# Altium integrated library Texas Instruments Interface I2C.IntLib: 424 symbols (part 15 of 23)
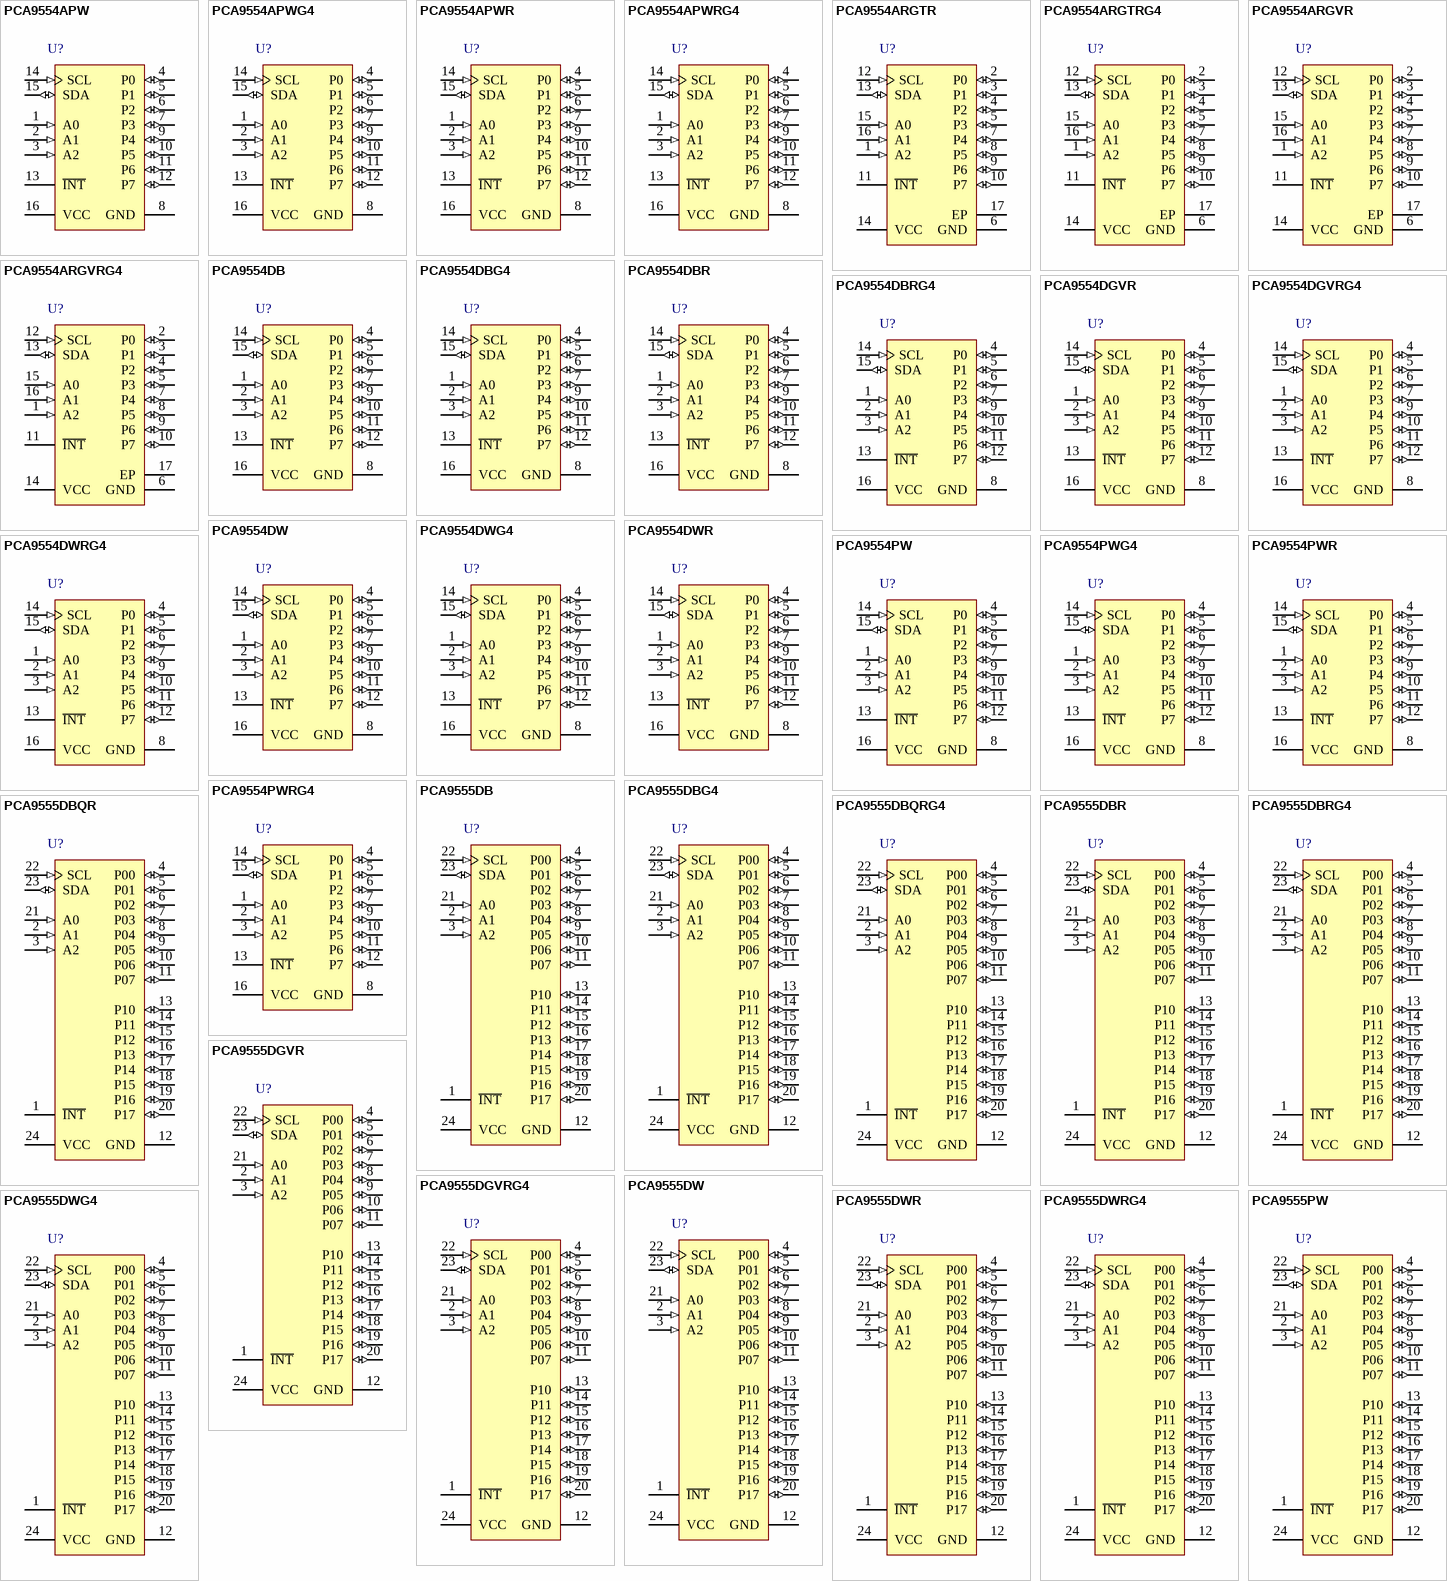
[diagram p27: symbols PCA9554APW to PCA9555PW]

## PCA9555DGVRG4
designator U?
Remote 16-Bit I2C and SMBus I/O Expander with Interrupt Output and Configuration Registers, 2.3 to 5.5 V, -40 to 85 degC, 24-pin TVSOP (DGV), Green (RoHS & no Sb/Br); Manufacturer: Texas Instruments; PartNumber: PCA9555DGVRG4; SubFamily: I2C IO Expander; No. of Outputs: 2; Interrupt Output: Yes; fSCLK(Max)(MHz): 400; VCC(Min)(V): 2.3; VCC(Max)(V): 5.5; I2C Address: 0100 xxx; # of I/Os: 16; DatasheetVersion: SCPS131E; PackageVersion: revE, Aug-2000; PackageReference: DGV24; PackageDescription: 24-Pin Thin Shrink Small Outline Package 0.4 mm Pitch; Supplier 1: Digi-Key; Supplier Part Number 1: PCA9555DGVRG4-ND; Supplier 2: Mouser; Supplier Part Number 2: 595-PCA9555DGVRG4; Eco-Plan: Green (RoHS & no Sb/Br); Max Frequency(kHz): 400; Vcc range(V): 2.3 to 5.5; Configuration Registers: Yes; 5V Tolerant I/O: Yes; Push-Pull I/O Type: Yes; Mounting Technology: Surface Mount; ComponentLink1Description: Datasheet; ComponentLink1URL: http://www.ti.com/general/docs/lit/getliterature.tsp?genericPartNumber=PCA9555&fileType=pdf; ComponentLink2Description: Package Specification; ComponentLink2URL: http://www.ti.com/litv/pdf/msso002e
footprint DGV24_N (TSSOP, 24-Leads, Body 5x4.4mm, Pitch 0.4mm, IPC Medium Density)
footprint DGV24_L (TSSOP, 24-Leads, Body 5x4.4mm, Pitch 0.4mm, IPC High Density)
footprint DGV24_M (TSSOP, 24-Leads, Body 5x4.4mm, Pitch 0.4mm, IPC Low Density)
pins: 1 ~{INT} (oc) "Interrupt output. Connect to VCC through a pullup resistor.", 2 A1 (in) "Address input 1. Connect directly to VCC or ground.", 3 A2 (in) "Address input 2. Connect directly to VCC or ground.", 4 P00 (io) "P-port input/output. Push-pull design structure.", 5 P01 (io) "P-port input/output. Push-pull design structure.", 6 P02 (io) "P-port input/output. Push-pull design structure.", 7 P03 (io) "P-port input/output. Push-pull design structure.", 8 P04 (io) "P-port input/output. Push-pull design structure.", 9 P05 (io) "P-port input/output. Push-pull design structure.", 10 P06 (io) "P-port input/output. Push-pull design structure.", 11 P07 (io) "P-port input/output. Push-pull design structure.", 12 GND (power) "Ground", 13 P10 (io) "P-port input/output. Push-pull design structure.", 14 P11 (io) "P-port input/output. Push-pull design structure.", 15 P12 (io) "P-port input/output. Push-pull design structure.", 16 P13 (io) "P-port input/output. Push-pull design structure.", 17 P14 (io) "P-port input/output. Push-pull design structure.", 18 P15 (io) "P-port input/output. Push-pull design structure.", 19 P16 (io) "P-port input/output. Push-pull design structure.", 20 P17 (io) "P-port input/output. Push-pull design structure.", 21 A0 (in) "Address input 0. Connect directly to VCC or ground.", 22 SCL (in) "Serial clock bus. Connect to VCC through a pullup resistor.", 23 SDA (io) "Serial data bus. Connect to VCC through a pullup resistor.", 24 VCC (power) "Supply voltage"

## PCA9555DW
designator U?
Remote 16-Bit I2C and SMBus I/O Expander with Interrupt Output and Configuration Registers, 2.3 to 5.5 V, -40 to 85 degC, 24-pin SOIC (DW), Green (RoHS & no Sb/Br); Manufacturer: Texas Instruments; PartNumber: PCA9555DW; SubFamily: I2C IO Expander; No. of Outputs: 2; Interrupt Output: Yes; fSCLK(Max)(MHz): 400; VCC(Min)(V): 2.3; VCC(Max)(V): 5.5; I2C Address: 0100 xxx; # of I/Os: 16; DatasheetVersion: SCPS131E; PackageVersion: revG, Jan-2011; PackageReference: DW24; PackageDescription: 24-Pin Plastic Small Outline Integrated Circuit, 15.4 x 7.5 mm, Pitch 1.27 mm Pitch; Supplier 1: Digi-Key; Supplier Part Number 1: PCA9555DW-ND; Supplier 2: Newark; Supplier Part Number 2: 63K6067; Supplier 3: Mouser; Supplier Part Number 3: 595-PCA9555DW; Eco-Plan: Green (RoHS & no Sb/Br); Max Frequency(kHz): 400; Vcc range(V): 2.3 to 5.5; Configuration Registers: Yes; 5V Tolerant I/O: Yes; Push-Pull I/O Type: Yes; Mounting Technology: Surface Mount; Code_JEDEC: MS-013AD; ComponentLink1Description: Datasheet; ComponentLink1URL: http://www.ti.com/general/docs/lit/getliterature.tsp?genericPartNumber=PCA9555&fileType=pdf; ComponentLink2Description: Package Specification; ComponentLink2URL: http://www.ti.com/litv/pdf/mpds174a
footprint DW24_N (SOIC, 24-Leads, Body 15.4x7.5mm, Pitch 1.27mm, IPC Medium Density)
footprint DW24_L (SOIC, 24-Leads, Body 15.4x7.5mm, Pitch 1.27mm, IPC High Density)
footprint DW24_M (SOIC, 24-Leads, Body 15.4x7.5mm, Pitch 1.27mm, IPC Low Density)
pins: 1 ~{INT} (oc) "Interrupt output. Connect to VCC through a pullup resistor.", 2 A1 (in) "Address input 1. Connect directly to VCC or ground.", 3 A2 (in) "Address input 2. Connect directly to VCC or ground.", 4 P00 (io) "P-port input/output. Push-pull design structure.", 5 P01 (io) "P-port input/output. Push-pull design structure.", 6 P02 (io) "P-port input/output. Push-pull design structure.", 7 P03 (io) "P-port input/output. Push-pull design structure.", 8 P04 (io) "P-port input/output. Push-pull design structure.", 9 P05 (io) "P-port input/output. Push-pull design structure.", 10 P06 (io) "P-port input/output. Push-pull design structure.", 11 P07 (io) "P-port input/output. Push-pull design structure.", 12 GND (power) "Ground", 13 P10 (io) "P-port input/output. Push-pull design structure.", 14 P11 (io) "P-port input/output. Push-pull design structure.", 15 P12 (io) "P-port input/output. Push-pull design structure.", 16 P13 (io) "P-port input/output. Push-pull design structure.", 17 P14 (io) "P-port input/output. Push-pull design structure.", 18 P15 (io) "P-port input/output. Push-pull design structure.", 19 P16 (io) "P-port input/output. Push-pull design structure.", 20 P17 (io) "P-port input/output. Push-pull design structure.", 21 A0 (in) "Address input 0. Connect directly to VCC or ground.", 22 SCL (in) "Serial clock bus. Connect to VCC through a pullup resistor.", 23 SDA (io) "Serial data bus. Connect to VCC through a pullup resistor.", 24 VCC (power) "Supply voltage"

## PCA9555DWG4
designator U?
Remote 16-Bit I2C and SMBus I/O Expander with Interrupt Output and Configuration Registers, 2.3 to 5.5 V, -40 to 85 degC, 24-pin SOIC (DW), Green (RoHS & no Sb/Br); Manufacturer: Texas Instruments; PartNumber: PCA9555DWG4; SubFamily: I2C IO Expander; No. of Outputs: 2; Interrupt Output: Yes; fSCLK(Max)(MHz): 400; VCC(Min)(V): 2.3; VCC(Max)(V): 5.5; I2C Address: 0100 xxx; # of I/Os: 16; DatasheetVersion: SCPS131E; PackageVersion: revG, Jan-2011; PackageReference: DW24; PackageDescription: 24-Pin Plastic Small Outline Integrated Circuit, 15.4 x 7.5 mm, Pitch 1.27 mm Pitch; Supplier 1: Digi-Key; Supplier Part Number 1: PCA9555DWG4-ND; Supplier 2: Mouser; Supplier Part Number 2: 595-PCA9555DWG4; Eco-Plan: Green (RoHS & no Sb/Br); Max Frequency(kHz): 400; Vcc range(V): 2.3 to 5.5; Configuration Registers: Yes; 5V Tolerant I/O: Yes; Push-Pull I/O Type: Yes; Mounting Technology: Surface Mount; Code_JEDEC: MS-013AD; ComponentLink1Description: Datasheet; ComponentLink1URL: http://www.ti.com/general/docs/lit/getliterature.tsp?genericPartNumber=PCA9555&fileType=pdf; ComponentLink2Description: Package Specification; ComponentLink2URL: http://www.ti.com/litv/pdf/mpds174a
footprint DW24_N (SOIC, 24-Leads, Body 15.4x7.5mm, Pitch 1.27mm, IPC Medium Density)
footprint DW24_L (SOIC, 24-Leads, Body 15.4x7.5mm, Pitch 1.27mm, IPC High Density)
footprint DW24_M (SOIC, 24-Leads, Body 15.4x7.5mm, Pitch 1.27mm, IPC Low Density)
pins: 1 ~{INT} (oc) "Interrupt output. Connect to VCC through a pullup resistor.", 2 A1 (in) "Address input 1. Connect directly to VCC or ground.", 3 A2 (in) "Address input 2. Connect directly to VCC or ground.", 4 P00 (io) "P-port input/output. Push-pull design structure.", 5 P01 (io) "P-port input/output. Push-pull design structure.", 6 P02 (io) "P-port input/output. Push-pull design structure.", 7 P03 (io) "P-port input/output. Push-pull design structure.", 8 P04 (io) "P-port input/output. Push-pull design structure.", 9 P05 (io) "P-port input/output. Push-pull design structure.", 10 P06 (io) "P-port input/output. Push-pull design structure.", 11 P07 (io) "P-port input/output. Push-pull design structure.", 12 GND (power) "Ground", 13 P10 (io) "P-port input/output. Push-pull design structure.", 14 P11 (io) "P-port input/output. Push-pull design structure.", 15 P12 (io) "P-port input/output. Push-pull design structure.", 16 P13 (io) "P-port input/output. Push-pull design structure.", 17 P14 (io) "P-port input/output. Push-pull design structure.", 18 P15 (io) "P-port input/output. Push-pull design structure.", 19 P16 (io) "P-port input/output. Push-pull design structure.", 20 P17 (io) "P-port input/output. Push-pull design structure.", 21 A0 (in) "Address input 0. Connect directly to VCC or ground.", 22 SCL (in) "Serial clock bus. Connect to VCC through a pullup resistor.", 23 SDA (io) "Serial data bus. Connect to VCC through a pullup resistor.", 24 VCC (power) "Supply voltage"

## PCA9555DWR
designator U?
Remote 16-Bit I2C and SMBus I/O Expander with Interrupt Output and Configuration Registers, 2.3 to 5.5 V, -40 to 85 degC, 24-pin SOIC (DW), Green (RoHS & no Sb/Br); Manufacturer: Texas Instruments; PartNumber: PCA9555DWR; SubFamily: I2C IO Expander; No. of Outputs: 2; Interrupt Output: Yes; fSCLK(Max)(MHz): 400; VCC(Min)(V): 2.3; VCC(Max)(V): 5.5; I2C Address: 0100 xxx; # of I/Os: 16; DatasheetVersion: SCPS131E; PackageVersion: revG, Jan-2011; PackageReference: DW24; PackageDescription: 24-Pin Plastic Small Outline Integrated Circuit, 15.4 x 7.5 mm, Pitch 1.27 mm Pitch; Supplier 1: Digi-Key; Supplier Part Number 1: 296-20973-2-ND; Supplier 2: Digi-Key; Supplier Part Number 2: 296-20973-1-ND; Supplier 3: Digi-Key; Supplier Part Number 3: 296-20973-6-ND; Supplier 4: Farnell; Supplier Part Number 4: 2101298; Supplier 5: Farnell; Supplier Part Number 5: 1575239; Supplier 6: Newark; Supplier Part Number 6: 63K6068; Supplier 7: Mouser; Supplier Part Number 7: 595-PCA9555DWR; Eco-Plan: Green (RoHS & no Sb/Br); Max Frequency(kHz): 400; Vcc range(V): 2.3 to 5.5; Configuration Registers: Yes; 5V Tolerant I/O: Yes; Push-Pull I/O Type: Yes; Mounting Technology: Surface Mount; Code_JEDEC: MS-013AD; ComponentLink1Description: Datasheet; ComponentLink1URL: http://www.ti.com/general/docs/lit/getliterature.tsp?genericPartNumber=PCA9555&fileType=pdf; ComponentLink2Description: Package Specification; ComponentLink2URL: http://www.ti.com/litv/pdf/mpds174a
footprint DW24_N (SOIC, 24-Leads, Body 15.4x7.5mm, Pitch 1.27mm, IPC Medium Density)
footprint DW24_L (SOIC, 24-Leads, Body 15.4x7.5mm, Pitch 1.27mm, IPC High Density)
footprint DW24_M (SOIC, 24-Leads, Body 15.4x7.5mm, Pitch 1.27mm, IPC Low Density)
pins: 1 ~{INT} (oc) "Interrupt output. Connect to VCC through a pullup resistor.", 2 A1 (in) "Address input 1. Connect directly to VCC or ground.", 3 A2 (in) "Address input 2. Connect directly to VCC or ground.", 4 P00 (io) "P-port input/output. Push-pull design structure.", 5 P01 (io) "P-port input/output. Push-pull design structure.", 6 P02 (io) "P-port input/output. Push-pull design structure.", 7 P03 (io) "P-port input/output. Push-pull design structure.", 8 P04 (io) "P-port input/output. Push-pull design structure.", 9 P05 (io) "P-port input/output. Push-pull design structure.", 10 P06 (io) "P-port input/output. Push-pull design structure.", 11 P07 (io) "P-port input/output. Push-pull design structure.", 12 GND (power) "Ground", 13 P10 (io) "P-port input/output. Push-pull design structure.", 14 P11 (io) "P-port input/output. Push-pull design structure.", 15 P12 (io) "P-port input/output. Push-pull design structure.", 16 P13 (io) "P-port input/output. Push-pull design structure.", 17 P14 (io) "P-port input/output. Push-pull design structure.", 18 P15 (io) "P-port input/output. Push-pull design structure.", 19 P16 (io) "P-port input/output. Push-pull design structure.", 20 P17 (io) "P-port input/output. Push-pull design structure.", 21 A0 (in) "Address input 0. Connect directly to VCC or ground.", 22 SCL (in) "Serial clock bus. Connect to VCC through a pullup resistor.", 23 SDA (io) "Serial data bus. Connect to VCC through a pullup resistor.", 24 VCC (power) "Supply voltage"

## PCA9555DWRG4
designator U?
Remote 16-Bit I2C and SMBus I/O Expander with Interrupt Output and Configuration Registers, 2.3 to 5.5 V, -40 to 85 degC, 24-pin SOIC (DW), Green (RoHS & no Sb/Br); Manufacturer: Texas Instruments; PartNumber: PCA9555DWRG4; SubFamily: I2C IO Expander; No. of Outputs: 2; Interrupt Output: Yes; fSCLK(Max)(MHz): 400; VCC(Min)(V): 2.3; VCC(Max)(V): 5.5; I2C Address: 0100 xxx; # of I/Os: 16; DatasheetVersion: SCPS131E; PackageVersion: revG, Jan-2011; PackageReference: DW24; PackageDescription: 24-Pin Plastic Small Outline Integrated Circuit, 15.4 x 7.5 mm, Pitch 1.27 mm Pitch; Supplier 1: Digi-Key; Supplier Part Number 1: PCA9555DWRG4-ND; Supplier 2: Mouser; Supplier Part Number 2: 595-PCA9555DWRG4; Eco-Plan: Green (RoHS & no Sb/Br); Max Frequency(kHz): 400; Vcc range(V): 2.3 to 5.5; Configuration Registers: Yes; 5V Tolerant I/O: Yes; Push-Pull I/O Type: Yes; Mounting Technology: Surface Mount; Code_JEDEC: MS-013AD; ComponentLink1Description: Datasheet; ComponentLink1URL: http://www.ti.com/general/docs/lit/getliterature.tsp?genericPartNumber=PCA9555&fileType=pdf; ComponentLink2Description: Package Specification; ComponentLink2URL: http://www.ti.com/litv/pdf/mpds174a
footprint DW24_N (SOIC, 24-Leads, Body 15.4x7.5mm, Pitch 1.27mm, IPC Medium Density)
footprint DW24_L (SOIC, 24-Leads, Body 15.4x7.5mm, Pitch 1.27mm, IPC High Density)
footprint DW24_M (SOIC, 24-Leads, Body 15.4x7.5mm, Pitch 1.27mm, IPC Low Density)
pins: 1 ~{INT} (oc) "Interrupt output. Connect to VCC through a pullup resistor.", 2 A1 (in) "Address input 1. Connect directly to VCC or ground.", 3 A2 (in) "Address input 2. Connect directly to VCC or ground.", 4 P00 (io) "P-port input/output. Push-pull design structure.", 5 P01 (io) "P-port input/output. Push-pull design structure.", 6 P02 (io) "P-port input/output. Push-pull design structure.", 7 P03 (io) "P-port input/output. Push-pull design structure.", 8 P04 (io) "P-port input/output. Push-pull design structure.", 9 P05 (io) "P-port input/output. Push-pull design structure.", 10 P06 (io) "P-port input/output. Push-pull design structure.", 11 P07 (io) "P-port input/output. Push-pull design structure.", 12 GND (power) "Ground", 13 P10 (io) "P-port input/output. Push-pull design structure.", 14 P11 (io) "P-port input/output. Push-pull design structure.", 15 P12 (io) "P-port input/output. Push-pull design structure.", 16 P13 (io) "P-port input/output. Push-pull design structure.", 17 P14 (io) "P-port input/output. Push-pull design structure.", 18 P15 (io) "P-port input/output. Push-pull design structure.", 19 P16 (io) "P-port input/output. Push-pull design structure.", 20 P17 (io) "P-port input/output. Push-pull design structure.", 21 A0 (in) "Address input 0. Connect directly to VCC or ground.", 22 SCL (in) "Serial clock bus. Connect to VCC through a pullup resistor.", 23 SDA (io) "Serial data bus. Connect to VCC through a pullup resistor.", 24 VCC (power) "Supply voltage"

## PCA9555PW
designator U?
Remote 16-Bit I2C and SMBus I/O Expander with Interrupt Output and Configuration Registers, 2.3 to 5.5 V, -40 to 85 degC, 24-pin TSSOP (PW), Green (RoHS & no Sb/Br); Manufacturer: Texas Instruments; PartNumber: PCA9555PW; SubFamily: I2C IO Expander; No. of Outputs: 2; Interrupt Output: Yes; fSCLK(Max)(MHz): 400; VCC(Min)(V): 2.3; VCC(Max)(V): 5.5; I2C Address: 0100 xxx; # of I/Os: 16; DatasheetVersion: SCPS131E; PackageVersion: revG, Feb-2011; PackageReference: PW24; PackageDescription: 24-Pin Thin Small Outline Package 0.65 mm Pitch; Supplier 1: Digi-Key; Supplier Part Number 1: PCA9555PWTI-ND; Supplier 2: Newark; Supplier Part Number 2: 63K6069; Supplier 3: Mouser; Supplier Part Number 3: 595-PCA9555PW; Eco-Plan: Green (RoHS & no Sb/Br); Max Frequency(kHz): 400; Vcc range(V): 2.3 to 5.5; Configuration Registers: Yes; 5V Tolerant I/O: Yes; Push-Pull I/O Type: Yes; Mounting Technology: Surface Mount; Code_JEDEC: MO-153; ComponentLink1Description: Datasheet; ComponentLink1URL: http://www.ti.com/general/docs/lit/getliterature.tsp?genericPartNumber=PCA9555&fileType=pdf; ComponentLink2Description: Package Specification; ComponentLink2URL: http://www.ti.com/litv/pdf/mpds177g
footprint PW24_N (TSOP, 24-Leads, Body 7.8x4.4mm, Pitch 0.65mm, IPC Medium Density)
footprint PW24_L (TSOP, 24-Leads, Body 7.8x4.4mm, Pitch 0.65mm, IPC High Density)
footprint PW24_M (TSOP, 24-Leads, Body 7.8x4.4mm, Pitch 0.65mm, IPC Low Density)
pins: 1 ~{INT} (oc) "Interrupt output. Connect to VCC through a pullup resistor.", 2 A1 (in) "Address input 1. Connect directly to VCC or ground.", 3 A2 (in) "Address input 2. Connect directly to VCC or ground.", 4 P00 (io) "P-port input/output. Push-pull design structure.", 5 P01 (io) "P-port input/output. Push-pull design structure.", 6 P02 (io) "P-port input/output. Push-pull design structure.", 7 P03 (io) "P-port input/output. Push-pull design structure.", 8 P04 (io) "P-port input/output. Push-pull design structure.", 9 P05 (io) "P-port input/output. Push-pull design structure.", 10 P06 (io) "P-port input/output. Push-pull design structure.", 11 P07 (io) "P-port input/output. Push-pull design structure.", 12 GND (power) "Ground", 13 P10 (io) "P-port input/output. Push-pull design structure.", 14 P11 (io) "P-port input/output. Push-pull design structure.", 15 P12 (io) "P-port input/output. Push-pull design structure.", 16 P13 (io) "P-port input/output. Push-pull design structure.", 17 P14 (io) "P-port input/output. Push-pull design structure.", 18 P15 (io) "P-port input/output. Push-pull design structure.", 19 P16 (io) "P-port input/output. Push-pull design structure.", 20 P17 (io) "P-port input/output. Push-pull design structure.", 21 A0 (in) "Address input 0. Connect directly to VCC or ground.", 22 SCL (in) "Serial clock bus. Connect to VCC through a pullup resistor.", 23 SDA (io) "Serial data bus. Connect to VCC through a pullup resistor.", 24 VCC (power) "Supply voltage"

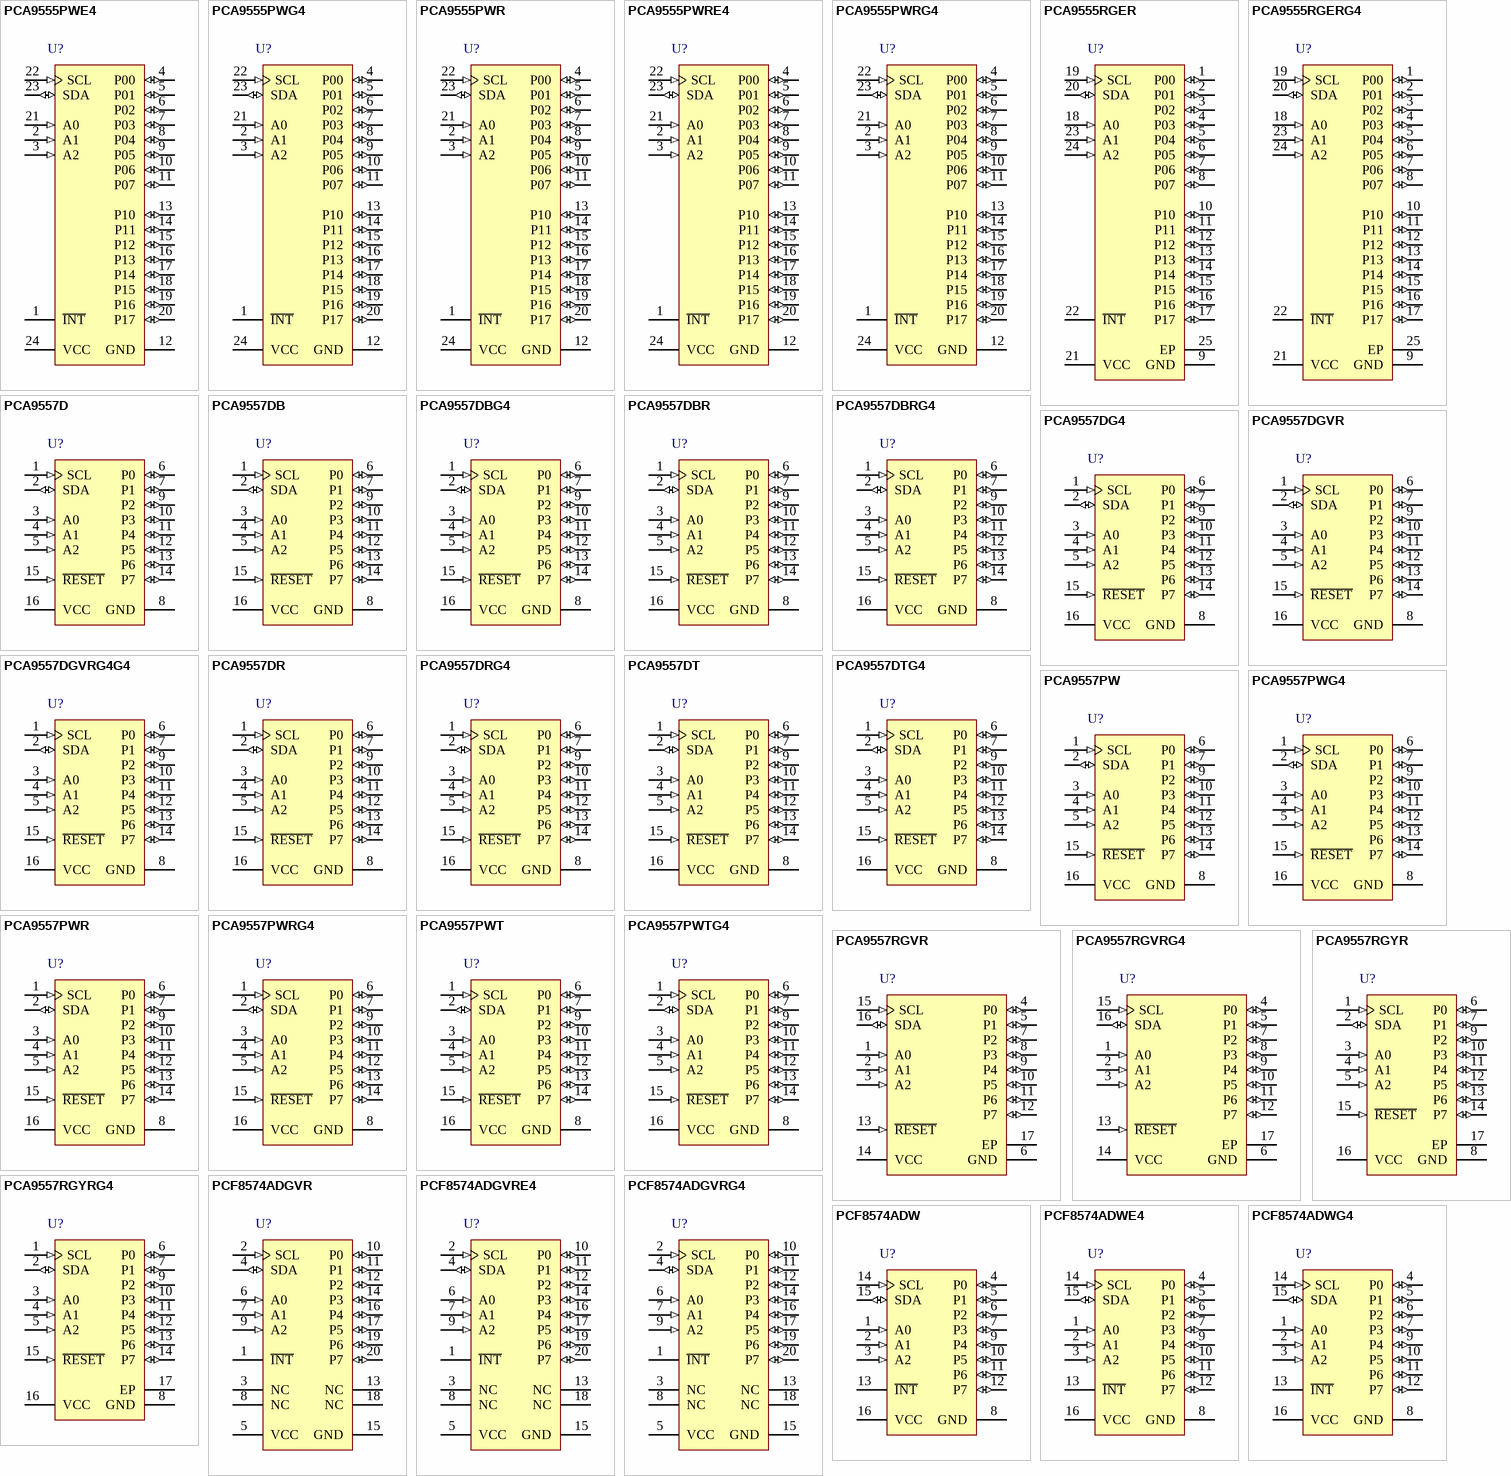
[diagram p9: symbols PCA9555PWE4 to PCF8574ADWG4]

## PCA9555PWE4
designator U?
Remote 16-Bit I2C and SMBus I/O Expander with Interrupt Output and Configuration Registers, 2.3 to 5.5 V, -40 to 85 degC, 24-pin TSSOP (PW), Green (RoHS & no Sb/Br); Manufacturer: Texas Instruments; PartNumber: PCA9555PWE4; SubFamily: I2C IO Expander; No. of Outputs: 2; Interrupt Output: Yes; fSCLK(Max)(MHz): 400; VCC(Min)(V): 2.3; VCC(Max)(V): 5.5; I2C Address: 0100 xxx; # of I/Os: 16; DatasheetVersion: SCPS131E; PackageVersion: revG, Feb-2011; PackageReference: PW24; PackageDescription: 24-Pin Thin Small Outline Package 0.65 mm Pitch; Supplier 1: Digi-Key; Supplier Part Number 1: PCA9555PWE4-ND; Supplier 2: Newark; Supplier Part Number 2: 69K0162; Supplier 3: Mouser; Supplier Part Number 3: 595-PCA9555PWE4; Eco-Plan: Green (RoHS & no Sb/Br); Max Frequency(kHz): 400; Vcc range(V): 2.3 to 5.5; Configuration Registers: Yes; 5V Tolerant I/O: Yes; Push-Pull I/O Type: Yes; Mounting Technology: Surface Mount; Code_JEDEC: MO-153; ComponentLink1Description: Datasheet; ComponentLink1URL: http://www.ti.com/general/docs/lit/getliterature.tsp?genericPartNumber=PCA9555&fileType=pdf; ComponentLink2Description: Package Specification; ComponentLink2URL: http://www.ti.com/litv/pdf/mpds177g
footprint PW24_N (TSOP, 24-Leads, Body 7.8x4.4mm, Pitch 0.65mm, IPC Medium Density)
footprint PW24_L (TSOP, 24-Leads, Body 7.8x4.4mm, Pitch 0.65mm, IPC High Density)
footprint PW24_M (TSOP, 24-Leads, Body 7.8x4.4mm, Pitch 0.65mm, IPC Low Density)
pins: 1 ~{INT} (oc) "Interrupt output. Connect to VCC through a pullup resistor.", 2 A1 (in) "Address input 1. Connect directly to VCC or ground.", 3 A2 (in) "Address input 2. Connect directly to VCC or ground.", 4 P00 (io) "P-port input/output. Push-pull design structure.", 5 P01 (io) "P-port input/output. Push-pull design structure.", 6 P02 (io) "P-port input/output. Push-pull design structure.", 7 P03 (io) "P-port input/output. Push-pull design structure.", 8 P04 (io) "P-port input/output. Push-pull design structure.", 9 P05 (io) "P-port input/output. Push-pull design structure.", 10 P06 (io) "P-port input/output. Push-pull design structure.", 11 P07 (io) "P-port input/output. Push-pull design structure.", 12 GND (power) "Ground", 13 P10 (io) "P-port input/output. Push-pull design structure.", 14 P11 (io) "P-port input/output. Push-pull design structure.", 15 P12 (io) "P-port input/output. Push-pull design structure.", 16 P13 (io) "P-port input/output. Push-pull design structure.", 17 P14 (io) "P-port input/output. Push-pull design structure.", 18 P15 (io) "P-port input/output. Push-pull design structure.", 19 P16 (io) "P-port input/output. Push-pull design structure.", 20 P17 (io) "P-port input/output. Push-pull design structure.", 21 A0 (in) "Address input 0. Connect directly to VCC or ground.", 22 SCL (in) "Serial clock bus. Connect to VCC through a pullup resistor.", 23 SDA (io) "Serial data bus. Connect to VCC through a pullup resistor.", 24 VCC (power) "Supply voltage"

## PCA9555PWG4
designator U?
Remote 16-Bit I2C and SMBus I/O Expander with Interrupt Output and Configuration Registers, 2.3 to 5.5 V, -40 to 85 degC, 24-pin TSSOP (PW), Green (RoHS & no Sb/Br); Manufacturer: Texas Instruments; PartNumber: PCA9555PWG4; SubFamily: I2C IO Expander; No. of Outputs: 2; Interrupt Output: Yes; fSCLK(Max)(MHz): 400; VCC(Min)(V): 2.3; VCC(Max)(V): 5.5; I2C Address: 0100 xxx; # of I/Os: 16; DatasheetVersion: SCPS131E; PackageVersion: revG, Feb-2011; PackageReference: PW24; PackageDescription: 24-Pin Thin Small Outline Package 0.65 mm Pitch; Supplier 1: Digi-Key; Supplier Part Number 1: PCA9555PWG4-ND; Supplier 2: Newark; Supplier Part Number 2: 46M6797; Supplier 3: Mouser; Supplier Part Number 3: 595-PCA9555PWG4; Eco-Plan: Green (RoHS & no Sb/Br); Max Frequency(kHz): 400; Vcc range(V): 2.3 to 5.5; Configuration Registers: Yes; 5V Tolerant I/O: Yes; Push-Pull I/O Type: Yes; Mounting Technology: Surface Mount; Code_JEDEC: MO-153; ComponentLink1Description: Datasheet; ComponentLink1URL: http://www.ti.com/general/docs/lit/getliterature.tsp?genericPartNumber=PCA9555&fileType=pdf; ComponentLink2Description: Package Specification; ComponentLink2URL: http://www.ti.com/litv/pdf/mpds177g
footprint PW24_N (TSOP, 24-Leads, Body 7.8x4.4mm, Pitch 0.65mm, IPC Medium Density)
footprint PW24_L (TSOP, 24-Leads, Body 7.8x4.4mm, Pitch 0.65mm, IPC High Density)
footprint PW24_M (TSOP, 24-Leads, Body 7.8x4.4mm, Pitch 0.65mm, IPC Low Density)
pins: 1 ~{INT} (oc) "Interrupt output. Connect to VCC through a pullup resistor.", 2 A1 (in) "Address input 1. Connect directly to VCC or ground.", 3 A2 (in) "Address input 2. Connect directly to VCC or ground.", 4 P00 (io) "P-port input/output. Push-pull design structure.", 5 P01 (io) "P-port input/output. Push-pull design structure.", 6 P02 (io) "P-port input/output. Push-pull design structure.", 7 P03 (io) "P-port input/output. Push-pull design structure.", 8 P04 (io) "P-port input/output. Push-pull design structure.", 9 P05 (io) "P-port input/output. Push-pull design structure.", 10 P06 (io) "P-port input/output. Push-pull design structure.", 11 P07 (io) "P-port input/output. Push-pull design structure.", 12 GND (power) "Ground", 13 P10 (io) "P-port input/output. Push-pull design structure.", 14 P11 (io) "P-port input/output. Push-pull design structure.", 15 P12 (io) "P-port input/output. Push-pull design structure.", 16 P13 (io) "P-port input/output. Push-pull design structure.", 17 P14 (io) "P-port input/output. Push-pull design structure.", 18 P15 (io) "P-port input/output. Push-pull design structure.", 19 P16 (io) "P-port input/output. Push-pull design structure.", 20 P17 (io) "P-port input/output. Push-pull design structure.", 21 A0 (in) "Address input 0. Connect directly to VCC or ground.", 22 SCL (in) "Serial clock bus. Connect to VCC through a pullup resistor.", 23 SDA (io) "Serial data bus. Connect to VCC through a pullup resistor.", 24 VCC (power) "Supply voltage"

## PCA9555PWR
designator U?
Remote 16-Bit I2C and SMBus I/O Expander with Interrupt Output and Configuration Registers, 2.3 to 5.5 V, -40 to 85 degC, 24-pin TSSOP (PW), Green (RoHS & no Sb/Br); Manufacturer: Texas Instruments; PartNumber: PCA9555PWR; SubFamily: I2C IO Expander; No. of Outputs: 2; Interrupt Output: Yes; fSCLK(Max)(MHz): 400; VCC(Min)(V): 2.3; VCC(Max)(V): 5.5; I2C Address: 0100 xxx; # of I/Os: 16; DatasheetVersion: SCPS131E; PackageVersion: revG, Feb-2011; PackageReference: PW24; PackageDescription: 24-Pin Thin Small Outline Package 0.65 mm Pitch; Supplier 1: Digi-Key; Supplier Part Number 1: 296-20974-2-ND; Supplier 2: Digi-Key; Supplier Part Number 2: 296-20974-1-ND; Supplier 3: Digi-Key; Supplier Part Number 3: 296-20974-6-ND; Supplier 4: Newark; Supplier Part Number 4: 63K6070; Supplier 5: Mouser; Supplier Part Number 5: 595-PCA9555PWR; Eco-Plan: Green (RoHS & no Sb/Br); Max Frequency(kHz): 400; Vcc range(V): 2.3 to 5.5; Configuration Registers: Yes; 5V Tolerant I/O: Yes; Push-Pull I/O Type: Yes; Mounting Technology: Surface Mount; Code_JEDEC: MO-153; ComponentLink1Description: Datasheet; ComponentLink1URL: http://www.ti.com/general/docs/lit/getliterature.tsp?genericPartNumber=PCA9555&fileType=pdf; ComponentLink2Description: Package Specification; ComponentLink2URL: http://www.ti.com/litv/pdf/mpds177g
footprint PW24_N (TSOP, 24-Leads, Body 7.8x4.4mm, Pitch 0.65mm, IPC Medium Density)
footprint PW24_L (TSOP, 24-Leads, Body 7.8x4.4mm, Pitch 0.65mm, IPC High Density)
footprint PW24_M (TSOP, 24-Leads, Body 7.8x4.4mm, Pitch 0.65mm, IPC Low Density)
pins: 1 ~{INT} (oc) "Interrupt output. Connect to VCC through a pullup resistor.", 2 A1 (in) "Address input 1. Connect directly to VCC or ground.", 3 A2 (in) "Address input 2. Connect directly to VCC or ground.", 4 P00 (io) "P-port input/output. Push-pull design structure.", 5 P01 (io) "P-port input/output. Push-pull design structure.", 6 P02 (io) "P-port input/output. Push-pull design structure.", 7 P03 (io) "P-port input/output. Push-pull design structure.", 8 P04 (io) "P-port input/output. Push-pull design structure.", 9 P05 (io) "P-port input/output. Push-pull design structure.", 10 P06 (io) "P-port input/output. Push-pull design structure.", 11 P07 (io) "P-port input/output. Push-pull design structure.", 12 GND (power) "Ground", 13 P10 (io) "P-port input/output. Push-pull design structure.", 14 P11 (io) "P-port input/output. Push-pull design structure.", 15 P12 (io) "P-port input/output. Push-pull design structure.", 16 P13 (io) "P-port input/output. Push-pull design structure.", 17 P14 (io) "P-port input/output. Push-pull design structure.", 18 P15 (io) "P-port input/output. Push-pull design structure.", 19 P16 (io) "P-port input/output. Push-pull design structure.", 20 P17 (io) "P-port input/output. Push-pull design structure.", 21 A0 (in) "Address input 0. Connect directly to VCC or ground.", 22 SCL (in) "Serial clock bus. Connect to VCC through a pullup resistor.", 23 SDA (io) "Serial data bus. Connect to VCC through a pullup resistor.", 24 VCC (power) "Supply voltage"

## PCA9555PWRE4
designator U?
Remote 16-Bit I2C and SMBus I/O Expander with Interrupt Output and Configuration Registers, 2.3 to 5.5 V, -40 to 85 degC, 24-pin TSSOP (PW), Green (RoHS & no Sb/Br); Manufacturer: Texas Instruments; PartNumber: PCA9555PWRE4; SubFamily: I2C IO Expander; No. of Outputs: 2; Interrupt Output: Yes; fSCLK(Max)(MHz): 400; VCC(Min)(V): 2.3; VCC(Max)(V): 5.5; I2C Address: 0100 xxx; # of I/Os: 16; DatasheetVersion: SCPS131E; PackageVersion: revG, Feb-2011; PackageReference: PW24; PackageDescription: 24-Pin Thin Small Outline Package 0.65 mm Pitch; Supplier 1: Digi-Key; Supplier Part Number 1: PCA9555PWRE4-ND; Supplier 2: Newark; Supplier Part Number 2: 69K0163; Supplier 3: Mouser; Supplier Part Number 3: 595-PCA9555PWRE4; Eco-Plan: Green (RoHS & no Sb/Br); Max Frequency(kHz): 400; Vcc range(V): 2.3 to 5.5; Configuration Registers: Yes; 5V Tolerant I/O: Yes; Push-Pull I/O Type: Yes; Mounting Technology: Surface Mount; Code_JEDEC: MO-153; ComponentLink1Description: Datasheet; ComponentLink1URL: http://www.ti.com/general/docs/lit/getliterature.tsp?genericPartNumber=PCA9555&fileType=pdf; ComponentLink2Description: Package Specification; ComponentLink2URL: http://www.ti.com/litv/pdf/mpds177g
footprint PW24_N (TSOP, 24-Leads, Body 7.8x4.4mm, Pitch 0.65mm, IPC Medium Density)
footprint PW24_L (TSOP, 24-Leads, Body 7.8x4.4mm, Pitch 0.65mm, IPC High Density)
footprint PW24_M (TSOP, 24-Leads, Body 7.8x4.4mm, Pitch 0.65mm, IPC Low Density)
pins: 1 ~{INT} (oc) "Interrupt output. Connect to VCC through a pullup resistor.", 2 A1 (in) "Address input 1. Connect directly to VCC or ground.", 3 A2 (in) "Address input 2. Connect directly to VCC or ground.", 4 P00 (io) "P-port input/output. Push-pull design structure.", 5 P01 (io) "P-port input/output. Push-pull design structure.", 6 P02 (io) "P-port input/output. Push-pull design structure.", 7 P03 (io) "P-port input/output. Push-pull design structure.", 8 P04 (io) "P-port input/output. Push-pull design structure.", 9 P05 (io) "P-port input/output. Push-pull design structure.", 10 P06 (io) "P-port input/output. Push-pull design structure.", 11 P07 (io) "P-port input/output. Push-pull design structure.", 12 GND (power) "Ground", 13 P10 (io) "P-port input/output. Push-pull design structure.", 14 P11 (io) "P-port input/output. Push-pull design structure.", 15 P12 (io) "P-port input/output. Push-pull design structure.", 16 P13 (io) "P-port input/output. Push-pull design structure.", 17 P14 (io) "P-port input/output. Push-pull design structure.", 18 P15 (io) "P-port input/output. Push-pull design structure.", 19 P16 (io) "P-port input/output. Push-pull design structure.", 20 P17 (io) "P-port input/output. Push-pull design structure.", 21 A0 (in) "Address input 0. Connect directly to VCC or ground.", 22 SCL (in) "Serial clock bus. Connect to VCC through a pullup resistor.", 23 SDA (io) "Serial data bus. Connect to VCC through a pullup resistor.", 24 VCC (power) "Supply voltage"

## PCA9555PWRG4
designator U?
Remote 16-Bit I2C and SMBus I/O Expander with Interrupt Output and Configuration Registers, 2.3 to 5.5 V, -40 to 85 degC, 24-pin TSSOP (PW), Green (RoHS & no Sb/Br); Manufacturer: Texas Instruments; PartNumber: PCA9555PWRG4; SubFamily: I2C IO Expander; No. of Outputs: 2; Interrupt Output: Yes; fSCLK(Max)(MHz): 400; VCC(Min)(V): 2.3; VCC(Max)(V): 5.5; I2C Address: 0100 xxx; # of I/Os: 16; DatasheetVersion: SCPS131E; PackageVersion: revG, Feb-2011; PackageReference: PW24; PackageDescription: 24-Pin Thin Small Outline Package 0.65 mm Pitch; Supplier 1: Digi-Key; Supplier Part Number 1: PCA9555PWRG4-ND; Supplier 2: Newark; Supplier Part Number 2: 46M6798; Supplier 3: Mouser; Supplier Part Number 3: 595-PCA9555PWRG4; Eco-Plan: Green (RoHS & no Sb/Br); Max Frequency(kHz): 400; Vcc range(V): 2.3 to 5.5; Configuration Registers: Yes; 5V Tolerant I/O: Yes; Push-Pull I/O Type: Yes; Mounting Technology: Surface Mount; Code_JEDEC: MO-153; ComponentLink1Description: Datasheet; ComponentLink1URL: http://www.ti.com/general/docs/lit/getliterature.tsp?genericPartNumber=PCA9555&fileType=pdf; ComponentLink2Description: Package Specification; ComponentLink2URL: http://www.ti.com/litv/pdf/mpds177g
footprint PW24_N (TSOP, 24-Leads, Body 7.8x4.4mm, Pitch 0.65mm, IPC Medium Density)
footprint PW24_L (TSOP, 24-Leads, Body 7.8x4.4mm, Pitch 0.65mm, IPC High Density)
footprint PW24_M (TSOP, 24-Leads, Body 7.8x4.4mm, Pitch 0.65mm, IPC Low Density)
pins: 1 ~{INT} (oc) "Interrupt output. Connect to VCC through a pullup resistor.", 2 A1 (in) "Address input 1. Connect directly to VCC or ground.", 3 A2 (in) "Address input 2. Connect directly to VCC or ground.", 4 P00 (io) "P-port input/output. Push-pull design structure.", 5 P01 (io) "P-port input/output. Push-pull design structure.", 6 P02 (io) "P-port input/output. Push-pull design structure.", 7 P03 (io) "P-port input/output. Push-pull design structure.", 8 P04 (io) "P-port input/output. Push-pull design structure.", 9 P05 (io) "P-port input/output. Push-pull design structure.", 10 P06 (io) "P-port input/output. Push-pull design structure.", 11 P07 (io) "P-port input/output. Push-pull design structure.", 12 GND (power) "Ground", 13 P10 (io) "P-port input/output. Push-pull design structure.", 14 P11 (io) "P-port input/output. Push-pull design structure.", 15 P12 (io) "P-port input/output. Push-pull design structure.", 16 P13 (io) "P-port input/output. Push-pull design structure.", 17 P14 (io) "P-port input/output. Push-pull design structure.", 18 P15 (io) "P-port input/output. Push-pull design structure.", 19 P16 (io) "P-port input/output. Push-pull design structure.", 20 P17 (io) "P-port input/output. Push-pull design structure.", 21 A0 (in) "Address input 0. Connect directly to VCC or ground.", 22 SCL (in) "Serial clock bus. Connect to VCC through a pullup resistor.", 23 SDA (io) "Serial data bus. Connect to VCC through a pullup resistor.", 24 VCC (power) "Supply voltage"

## PCA9555RGER
designator U?
Remote 16-Bit I2C and SMBus I/O Expander with Interrupt Output and Configuration Registers, 2.3 to 5.5 V, -40 to 85 degC, 24-pin VQFN (RGE), Green (RoHS & no Sb/Br); Manufacturer: Texas Instruments; PartNumber: PCA9555RGER; SubFamily: I2C IO Expander; No. of Outputs: 2; Interrupt Output: Yes; fSCLK(Max)(MHz): 400; VCC(Min)(V): 2.3; VCC(Max)(V): 5.5; I2C Address: 0100 xxx; # of I/Os: 16; DatasheetVersion: SCPS131E; PackageVersion: revG, Jul-2011; PackageReference: RGE24-2100X2100TP; PackageDescription: 24-Pin Plastic Quad Flatpack No-Lead, 4 x 4 mm Body, 0.5 mm Pitch; Supplier 1: Digi-Key; Supplier Part Number 1: 296-19591-2-ND; Supplier 2: Digi-Key; Supplier Part Number 2: 296-19591-1-ND; Supplier 3: Digi-Key; Supplier Part Number 3: 296-19591-6-ND; Supplier 4: Farnell; Supplier Part Number 4: 1575354; Supplier 5: Newark; Supplier Part Number 5: 71K9096; Supplier 6: Mouser; Supplier Part Number 6: 595-PCA9555RGER; Eco-Plan: Green (RoHS & no Sb/Br); Max Frequency(kHz): 400; Vcc range(V): 2.3 to 5.5; Configuration Registers: Yes; 5V Tolerant I/O: Yes; Push-Pull I/O Type: Yes; Mounting Technology: Surface Mount; Code_JEDEC: MO-220; ComponentLink1Description: Datasheet; ComponentLink1URL: http://www.ti.com/general/docs/lit/getliterature.tsp?genericPartNumber=PCA9555&fileType=pdf; ComponentLink2Description: Package Specification; ComponentLink2URL: http://www.ti.com/litv/pdf/mpds211a
footprint RGE24-2100X2100TP (QFN, 24-Leads, Body 4x4mm, Pitch 0.5mm, Thermal Pad 2.1x2.1mm, TI Recommended)
pins: 1 P00 (io) "P-port input/output. Push-pull design structure.", 2 P01 (io) "P-port input/output. Push-pull design structure.", 3 P02 (io) "P-port input/output. Push-pull design structure.", 4 P03 (io) "P-port input/output. Push-pull design structure.", 5 P04 (io) "P-port input/output. Push-pull design structure.", 6 P05 (io) "P-port input/output. Push-pull design structure.", 7 P06 (io) "P-port input/output. Push-pull design structure.", 8 P07 (io) "P-port input/output. Push-pull design structure.", 9 GND (power) "Ground", 10 P10 (io) "P-port input/output. Push-pull design structure.", 11 P11 (io) "P-port input/output. Push-pull design structure.", 12 P12 (io) "P-port input/output. Push-pull design structure.", 13 P13 (io) "P-port input/output. Push-pull design structure.", 14 P14 (io) "P-port input/output. Push-pull design structure.", 15 P15 (io) "P-port input/output. Push-pull design structure.", 16 P16 (io) "P-port input/output. Push-pull design structure.", 17 P17 (io) "P-port input/output. Push-pull design structure.", 18 A0 (in) "Address input 0. Connect directly to VCC or ground.", 19 SCL (in) "Serial clock bus. Connect to VCC through a pullup resistor.", 20 SDA (io) "Serial data bus. Connect to VCC through a pullup resistor.", 21 VCC (power) "Supply voltage", 22 ~{INT} (oc) "Interrupt output. Connect to VCC through a pullup resistor.", 23 A1 (in) "Address input 1. Connect directly to VCC or ground.", 24 A2 (in) "Address input 2. Connect directly to VCC or ground.", 25 EP "Exposed thermal pad"

## PCA9555RGERG4
designator U?
Remote 16-Bit I2C and SMBus I/O Expander with Interrupt Output and Configuration Registers, 2.3 to 5.5 V, -40 to 85 degC, 24-pin VQFN (RGE), Green (RoHS & no Sb/Br); Manufacturer: Texas Instruments; PartNumber: PCA9555RGERG4; SubFamily: I2C IO Expander; No. of Outputs: 2; Interrupt Output: Yes; fSCLK(Max)(MHz): 400; VCC(Min)(V): 2.3; VCC(Max)(V): 5.5; I2C Address: 0100 xxx; # of I/Os: 16; DatasheetVersion: SCPS131E; PackageVersion: revG, Jul-2011; PackageReference: RGE24-2100X2100TP; PackageDescription: 24-Pin Plastic Quad Flatpack No-Lead, 4 x 4 mm Body, 0.5 mm Pitch; Supplier 1: Digi-Key; Supplier Part Number 1: PCA9555RGERG4-ND; Supplier 2: Newark; Supplier Part Number 2: 45M9707; Supplier 3: Mouser; Supplier Part Number 3: 595-PCA9555RGERG4; Eco-Plan: Green (RoHS & no Sb/Br); Max Frequency(kHz): 400; Vcc range(V): 2.3 to 5.5; Configuration Registers: Yes; 5V Tolerant I/O: Yes; Push-Pull I/O Type: Yes; Mounting Technology: Surface Mount; Code_JEDEC: MO-220; ComponentLink1Description: Datasheet; ComponentLink1URL: http://www.ti.com/general/docs/lit/getliterature.tsp?genericPartNumber=PCA9555&fileType=pdf; ComponentLink2Description: Package Specification; ComponentLink2URL: http://www.ti.com/litv/pdf/mpds211a
footprint RGE24-2100X2100TP (QFN, 24-Leads, Body 4x4mm, Pitch 0.5mm, Thermal Pad 2.1x2.1mm, TI Recommended)
pins: 1 P00 (io) "P-port input/output. Push-pull design structure.", 2 P01 (io) "P-port input/output. Push-pull design structure.", 3 P02 (io) "P-port input/output. Push-pull design structure.", 4 P03 (io) "P-port input/output. Push-pull design structure.", 5 P04 (io) "P-port input/output. Push-pull design structure.", 6 P05 (io) "P-port input/output. Push-pull design structure.", 7 P06 (io) "P-port input/output. Push-pull design structure.", 8 P07 (io) "P-port input/output. Push-pull design structure.", 9 GND (power) "Ground", 10 P10 (io) "P-port input/output. Push-pull design structure.", 11 P11 (io) "P-port input/output. Push-pull design structure.", 12 P12 (io) "P-port input/output. Push-pull design structure.", 13 P13 (io) "P-port input/output. Push-pull design structure.", 14 P14 (io) "P-port input/output. Push-pull design structure.", 15 P15 (io) "P-port input/output. Push-pull design structure.", 16 P16 (io) "P-port input/output. Push-pull design structure.", 17 P17 (io) "P-port input/output. Push-pull design structure.", 18 A0 (in) "Address input 0. Connect directly to VCC or ground.", 19 SCL (in) "Serial clock bus. Connect to VCC through a pullup resistor.", 20 SDA (io) "Serial data bus. Connect to VCC through a pullup resistor.", 21 VCC (power) "Supply voltage", 22 ~{INT} (oc) "Interrupt output. Connect to VCC through a pullup resistor.", 23 A1 (in) "Address input 1. Connect directly to VCC or ground.", 24 A2 (in) "Address input 2. Connect directly to VCC or ground.", 25 EP "Exposed thermal pad"

## PCA9557D
designator U?
Remote 8-Bit I2C and SMBus Low-Power I/O Expander with Reset and Configuration Register, 8 Outputs, 2.3 to 5.5 V, -40 to 85 degC, 16-pin SOIC (D), Green (RoHS & no Sb/Br); Manufacturer: Texas Instruments; PartNumber: PCA9557D; SubFamily: I2C IO Expander; No. of Outputs: 8; Reset Input: Yes; fSCLK(Max)(MHz): 400; VCC(Min)(V): 2.3; VCC(Max)(V): 5.5; I2C Address: 0011 xxx; DatasheetVersion: SCPS133I; PackageVersion: revM, Jun-2011; PackageReference: D16; PackageDescription: 16-Pin Plastic Small Outline Integrated Circuit, 9.9 x 3.9 mm, Pitch 1.27 mm Pitch; Supplier 1: Digi-Key; Supplier Part Number 1: PCA9557DTI-ND; Supplier 2: Newark; Supplier Part Number 2: 80K2696; Supplier 3: Mouser; Supplier Part Number 3: 595-PCA9557D; Eco-Plan: Green (RoHS & no Sb/Br); Technology Family: I2C; Max Frequency(kHz): 400; # of I/Os: 8; Vcc range(V): 2.3 to 5.5; Low Power: Yes; Configuration Registers: Yes; 5V Tolerant I/O: Yes; Push-Pull I/O Type: Yes; Open Drain I/O Type: Yes; Mounting Technology: Surface Mount; Code_JEDEC: MS-012AC; ComponentLink1Description: Datasheet; ComponentLink1URL: http://www.ti.com/general/docs/lit/getliterature.tsp?genericPartNumber=PCA9557&fileType=pdf; ComponentLink2Description: Package Specification; ComponentLink2URL: http://www.ti.com/litv/pdf/mpds178g
footprint D16_N (SOIC, 16-Leads, Body 9.9x3.9mm, Pitch 1.27mm, IPC Medium Density)
footprint D16_L (SOIC, 16-Leads, Body 9.9x3.9mm, Pitch 1.27mm, IPC High Density)
footprint D16_M (SOIC, 16-Leads, Body 9.9x3.9mm, Pitch 1.27mm, IPC Low Density)
pins: 1 SCL (in) "Serial clock bus. Connect to VCC through a pullup resistor.", 2 SDA (io) "Serial data bus. Connect to VCC through a pullup resistor.", 3 A0 (in) "Address input. Connect directly to VCC or ground.", 4 A1 (in) "Address input. Connect directly to VCC or ground.", 5 A2 (in) "Address input. Connect directly to VCC or ground.", 6 P0 (io) "P-port input/output. High impedance open-drain design structure. Connect to VCC through a pullup resistor.", 7 P1 (io) "P-port input/output. Push-pull design structure.", 8 GND (power) "Ground", 9 P2 (io) "P-port input/output. Push-pull design structure.", 10 P3 (io) "P-port input/output. Push-pull design structure.", 11 P4 (io) "P-port input/output. Push-pull design structure.", 12 P5 (io) "P-port input/output. Push-pull design structure.", 13 P6 (io) "P-port input/output. Push-pull design structure.", 14 P7 (io) "P-port input/output. Push-pull design structure.", 15 ~{RESET} (in) "Active-low reset input. Connect to VCC  through a pullup resistor, if no active connection is used.", 16 VCC (power) "Supply voltage"

## PCA9557DB
designator U?
Remote 8-Bit I2C and SMBus Low-Power I/O Expander with Reset and Configuration Register, 8 Outputs, 2.3 to 5.5 V, -40 to 85 degC, 16-pin SSOP (DB), Green (RoHS & no Sb/Br); Manufacturer: Texas Instruments; PartNumber: PCA9557DB; SubFamily: I2C IO Expander; No. of Outputs: 8; Reset Input: Yes; fSCLK(Max)(MHz): 400; VCC(Min)(V): 2.3; VCC(Max)(V): 5.5; I2C Address: 0011 xxx; DatasheetVersion: SCPS133I; PackageVersion: revE, Dec-2001; PackageReference: DB16; PackageDescription: 16-Pin Plastic Small Outline Package, 6.2 x 5.3 mm Body, 0.65 mm Pitch; Supplier 1: Digi-Key; Supplier Part Number 1: PCA9557DB-ND; Supplier 2: Newark; Supplier Part Number 2: 80K2697; Supplier 3: Mouser; Supplier Part Number 3: 595-PCA9557DB; Eco-Plan: Green (RoHS & no Sb/Br); Technology Family: I2C; Max Frequency(kHz): 400; # of I/Os: 8; Vcc range(V): 2.3 to 5.5; Low Power: Yes; Configuration Registers: Yes; 5V Tolerant I/O: Yes; Push-Pull I/O Type: Yes; Open Drain I/O Type: Yes; Mounting Technology: Surface Mount; Code_JEDEC: MO-150; ComponentLink1Description: Datasheet; ComponentLink1URL: http://www.ti.com/general/docs/lit/getliterature.tsp?genericPartNumber=PCA9557&fileType=pdf; ComponentLink2Description: Package Specification; ComponentLink2URL: http://www.ti.com/litv/pdf/msso002e
footprint DB16_N (SOP, 16-Leads, Body 6.2x5.3mm, Pitch 0.65mm, IPC Medium Density)
footprint DB16_L (SOP, 16-Leads, Body 6.2x5.3mm, Pitch 0.65mm, IPC High Density)
footprint DB16_M (SOP, 16-Leads, Body 6.2x5.3mm, Pitch 0.65mm, IPC Low Density)
pins: 1 SCL (in) "Serial clock bus. Connect to VCC through a pullup resistor.", 2 SDA (io) "Serial data bus. Connect to VCC through a pullup resistor.", 3 A0 (in) "Address input. Connect directly to VCC or ground.", 4 A1 (in) "Address input. Connect directly to VCC or ground.", 5 A2 (in) "Address input. Connect directly to VCC or ground.", 6 P0 (io) "P-port input/output. High impedance open-drain design structure. Connect to VCC through a pullup resistor.", 7 P1 (io) "P-port input/output. Push-pull design structure.", 8 GND (power) "Ground", 9 P2 (io) "P-port input/output. Push-pull design structure.", 10 P3 (io) "P-port input/output. Push-pull design structure.", 11 P4 (io) "P-port input/output. Push-pull design structure.", 12 P5 (io) "P-port input/output. Push-pull design structure.", 13 P6 (io) "P-port input/output. Push-pull design structure.", 14 P7 (io) "P-port input/output. Push-pull design structure.", 15 ~{RESET} (in) "Active-low reset input. Connect to VCC  through a pullup resistor, if no active connection is used.", 16 VCC (power) "Supply voltage"

## PCA9557DBG4
designator U?
Remote 8-Bit I2C and SMBus Low-Power I/O Expander with Reset and Configuration Register, 8 Outputs, 2.3 to 5.5 V, -40 to 85 degC, 16-pin SSOP (DB), Green (RoHS & no Sb/Br); Manufacturer: Texas Instruments; PartNumber: PCA9557DBG4; SubFamily: I2C IO Expander; No. of Outputs: 8; Reset Input: Yes; fSCLK(Max)(MHz): 400; VCC(Min)(V): 2.3; VCC(Max)(V): 5.5; I2C Address: 0011 xxx; DatasheetVersion: SCPS133I; PackageVersion: revE, Dec-2001; PackageReference: DB16; PackageDescription: 16-Pin Plastic Small Outline Package, 6.2 x 5.3 mm Body, 0.65 mm Pitch; Supplier 1: Digi-Key; Supplier Part Number 1: PCA9557DBG4-ND; Supplier 2: Mouser; Supplier Part Number 2: 595-PCA9557DBG4; Eco-Plan: Green (RoHS & no Sb/Br); Technology Family: I2C; Max Frequency(kHz): 400; # of I/Os: 8; Vcc range(V): 2.3 to 5.5; Low Power: Yes; Configuration Registers: Yes; 5V Tolerant I/O: Yes; Push-Pull I/O Type: Yes; Open Drain I/O Type: Yes; Mounting Technology: Surface Mount; Code_JEDEC: MO-150; ComponentLink1Description: Datasheet; ComponentLink1URL: http://www.ti.com/general/docs/lit/getliterature.tsp?genericPartNumber=PCA9557&fileType=pdf; ComponentLink2Description: Package Specification; ComponentLink2URL: http://www.ti.com/litv/pdf/msso002e
footprint DB16_N (SOP, 16-Leads, Body 6.2x5.3mm, Pitch 0.65mm, IPC Medium Density)
footprint DB16_L (SOP, 16-Leads, Body 6.2x5.3mm, Pitch 0.65mm, IPC High Density)
footprint DB16_M (SOP, 16-Leads, Body 6.2x5.3mm, Pitch 0.65mm, IPC Low Density)
pins: 1 SCL (in) "Serial clock bus. Connect to VCC through a pullup resistor.", 2 SDA (io) "Serial data bus. Connect to VCC through a pullup resistor.", 3 A0 (in) "Address input. Connect directly to VCC or ground.", 4 A1 (in) "Address input. Connect directly to VCC or ground.", 5 A2 (in) "Address input. Connect directly to VCC or ground.", 6 P0 (io) "P-port input/output. High impedance open-drain design structure. Connect to VCC through a pullup resistor.", 7 P1 (io) "P-port input/output. Push-pull design structure.", 8 GND (power) "Ground", 9 P2 (io) "P-port input/output. Push-pull design structure.", 10 P3 (io) "P-port input/output. Push-pull design structure.", 11 P4 (io) "P-port input/output. Push-pull design structure.", 12 P5 (io) "P-port input/output. Push-pull design structure.", 13 P6 (io) "P-port input/output. Push-pull design structure.", 14 P7 (io) "P-port input/output. Push-pull design structure.", 15 ~{RESET} (in) "Active-low reset input. Connect to VCC  through a pullup resistor, if no active connection is used.", 16 VCC (power) "Supply voltage"

## PCA9557DBR
designator U?
Remote 8-Bit I2C and SMBus Low-Power I/O Expander with Reset and Configuration Register, 8 Outputs, 2.3 to 5.5 V, -40 to 85 degC, 16-pin SSOP (DB), Green (RoHS & no Sb/Br); Manufacturer: Texas Instruments; PartNumber: PCA9557DBR; SubFamily: I2C IO Expander; No. of Outputs: 8; Reset Input: Yes; fSCLK(Max)(MHz): 400; VCC(Min)(V): 2.3; VCC(Max)(V): 5.5; I2C Address: 0011 xxx; DatasheetVersion: SCPS133I; PackageVersion: revE, Dec-2001; PackageReference: DB16; PackageDescription: 16-Pin Plastic Small Outline Package, 6.2 x 5.3 mm Body, 0.65 mm Pitch; Supplier 1: Digi-Key; Supplier Part Number 1: 296-20975-2-ND; Supplier 2: Digi-Key; Supplier Part Number 2: 296-20975-1-ND; Supplier 3: Digi-Key; Supplier Part Number 3: 296-20975-6-ND; Supplier 4: Newark; Supplier Part Number 4: 80K2698; Supplier 5: Mouser; Supplier Part Number 5: 595-PCA9557DBR; Eco-Plan: Green (RoHS & no Sb/Br); Technology Family: I2C; Max Frequency(kHz): 400; # of I/Os: 8; Vcc range(V): 2.3 to 5.5; Low Power: Yes; Configuration Registers: Yes; 5V Tolerant I/O: Yes; Push-Pull I/O Type: Yes; Open Drain I/O Type: Yes; Mounting Technology: Surface Mount; Code_JEDEC: MO-150; ComponentLink1Description: Datasheet; ComponentLink1URL: http://www.ti.com/general/docs/lit/getliterature.tsp?genericPartNumber=PCA9557&fileType=pdf; ComponentLink2Description: Package Specification; ComponentLink2URL: http://www.ti.com/litv/pdf/msso002e
footprint DB16_N (SOP, 16-Leads, Body 6.2x5.3mm, Pitch 0.65mm, IPC Medium Density)
footprint DB16_L (SOP, 16-Leads, Body 6.2x5.3mm, Pitch 0.65mm, IPC High Density)
footprint DB16_M (SOP, 16-Leads, Body 6.2x5.3mm, Pitch 0.65mm, IPC Low Density)
pins: 1 SCL (in) "Serial clock bus. Connect to VCC through a pullup resistor.", 2 SDA (io) "Serial data bus. Connect to VCC through a pullup resistor.", 3 A0 (in) "Address input. Connect directly to VCC or ground.", 4 A1 (in) "Address input. Connect directly to VCC or ground.", 5 A2 (in) "Address input. Connect directly to VCC or ground.", 6 P0 (io) "P-port input/output. High impedance open-drain design structure. Connect to VCC through a pullup resistor.", 7 P1 (io) "P-port input/output. Push-pull design structure.", 8 GND (power) "Ground", 9 P2 (io) "P-port input/output. Push-pull design structure.", 10 P3 (io) "P-port input/output. Push-pull design structure.", 11 P4 (io) "P-port input/output. Push-pull design structure.", 12 P5 (io) "P-port input/output. Push-pull design structure.", 13 P6 (io) "P-port input/output. Push-pull design structure.", 14 P7 (io) "P-port input/output. Push-pull design structure.", 15 ~{RESET} (in) "Active-low reset input. Connect to VCC  through a pullup resistor, if no active connection is used.", 16 VCC (power) "Supply voltage"